# EAGLE library part ARS304H (library Relay)
ARS (RS) HIGH FREQUENCY RELAY Manufacturer's datasheet <https://media.digikey.com/pdf/Data%20Sheets/Panasonic%20Electric%20Works%20PDFs/RS_Relays(ARS).pdf>
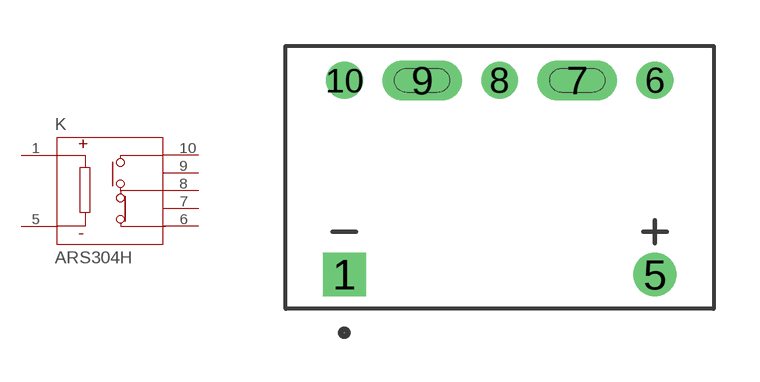
[diagram p2: symbol with the pads of ARS304H; footprint ARS304H]

Designator prefix K

## ARS304H (CREATED_BY: PCBLayout.com; DIGIKEY_PARTNO: 255-6112-ND; MANUFACTURER: Panasonic Electric Works; MPN: ARS304H)  [ARS304H]
1  1  pas
5  5  pas
6  6  pas
7  7  pas
8  8  pas
9  9  pas
10  10  pas

## Footprint ARS304H (pad centres in mm)
drill 0.9 square: 1 -5.08,-3.175
drill 0.9: 5 5.08,-3.175
drill 0.7: 6 5.08,3.175; 8 0,3.175; 10 -5.08,3.175
drill 0.8 long: 7 2.54,3.175; 9 -2.54,3.175